# Altium footprint library Gas Monitor Components.PcbLib: 50 footprints (part 3 of 4)
Each footprint in its own frame and in the unit in brackets; x right, y up, seen from the top. Pads: shape width x height; smd on the part's side, far side on the other; paste and mask are expansions set on the pad; w line width, h text height; cw(c..) or ccw(c..) is an arc to the next point about the centre after c.
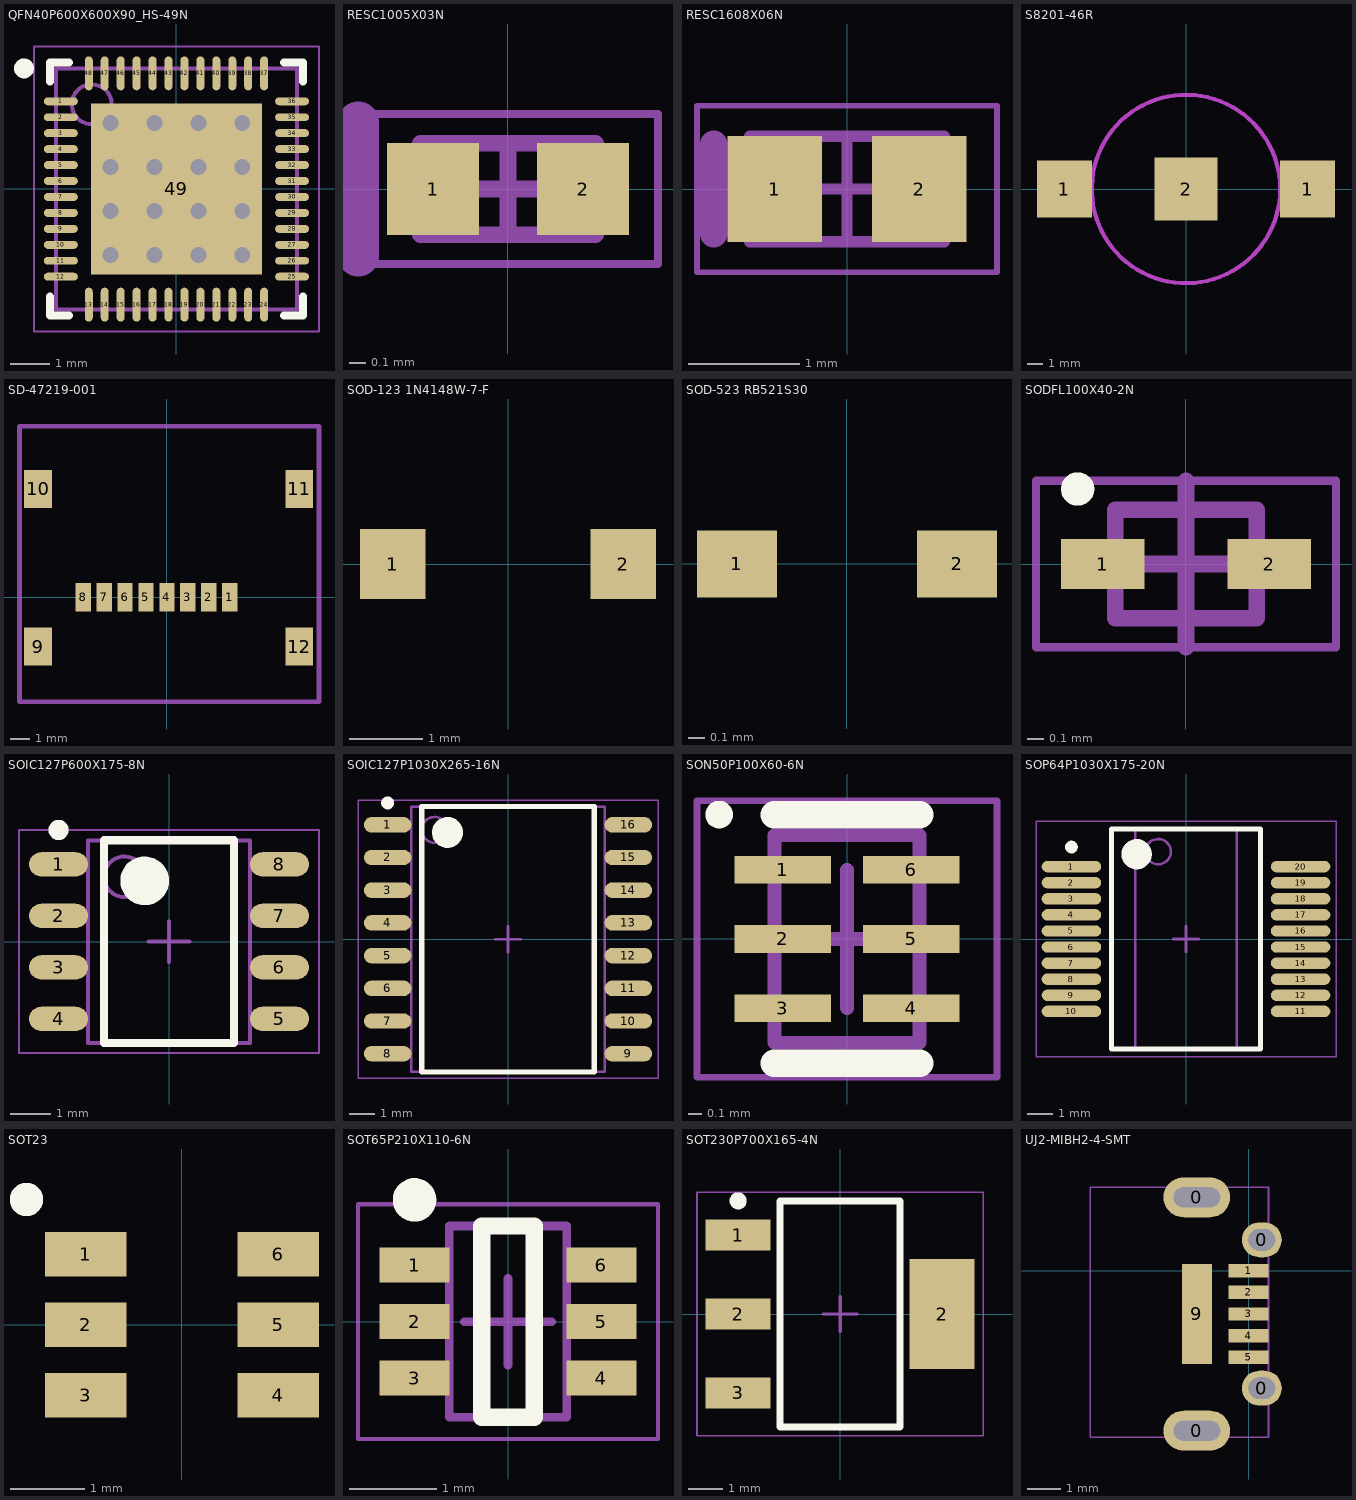
[diagram p2: the footprints below, top view; thin cyan lines are the x and y axes]

## QFN40P600X600X90_HS-49N [mm] "QFN, 48-Leads, Body 6.00x6.00mm, Pitch 0.40mm, Thermal Pad 4.30x4.30mm, IPC Medium Density"
height 0.9
pads (49):
  oval 0.85x0.2 smd: 1(-2.9,2.2) 2(-2.9,1.8) 3(-2.9,1.4) 4(-2.9,1) 5(-2.9,0.6) 6(-2.9,0.2) 7(-2.9,-0.2) 8(-2.9,-0.6) 9(-2.9,-1) 10(-2.9,-1.4) 11(-2.9,-1.8) 12(-2.9,-2.2) 25(2.9,-2.2) 26(2.9,-1.8) 27(2.9,-1.4) 28(2.9,-1) 29(2.9,-0.6) 30(2.9,-0.2) 31(2.9,0.2) 32(2.9,0.6) 33(2.9,1) 34(2.9,1.4) 35(2.9,1.8) 36(2.9,2.2)
  oval 0.2x0.85 smd: 13(-2.2,-2.9) 14(-1.8,-2.9) 15(-1.4,-2.9) 16(-1,-2.9) 17(-0.6,-2.9) 18(-0.2,-2.9) 19(0.2,-2.9) 20(0.6,-2.9) 21(1,-2.9) 22(1.4,-2.9) 23(1.8,-2.9) 24(2.2,-2.9) 37(2.2,2.9) 38(1.8,2.9) 39(1.4,2.9) 40(1,2.9) 41(0.6,2.9) 42(0.2,2.9) 43(-0.2,2.9) 44(-0.6,2.9) 45(-1,2.9) 46(-1.4,2.9) 47(-1.8,2.9) 48(-2.2,2.9)
  rect 4.3x4.3 smd: 49(0,0)
via -1.65,0.55 diameter 0.6 hole 0.4
via -1.65,1.65 diameter 0.6 hole 0.4
via -0.55,1.65 diameter 0.6 hole 0.4
via 0.55,1.65 diameter 0.6 hole 0.4
via 1.65,1.65 diameter 0.6 hole 0.4
via -0.55,0.55 diameter 0.6 hole 0.4
via 0.55,0.55 diameter 0.6 hole 0.4
via 1.65,0.55 diameter 0.6 hole 0.4
via -1.65,-0.55 diameter 0.6 hole 0.4
via -0.55,-0.55 diameter 0.6 hole 0.4
via 0.55,-0.55 diameter 0.6 hole 0.4
via 1.65,-0.55 diameter 0.6 hole 0.4
via -1.65,-1.65 diameter 0.6 hole 0.4
via -0.55,-1.65 diameter 0.6 hole 0.4
via 0.55,-1.65 diameter 0.6 hole 0.4
via 1.65,-1.65 diameter 0.6 hole 0.4
Top Overlay:
  circle w0.25: c-3.825,3.025 r0.125
  lines w0.2: -3.175,-2.7 -3.175,-3.175 -2.7,-3.175 ; -3.175,2.7 -3.175,3.175 -2.7,3.175 ; 2.7,-3.175 3.175,-3.175 3.175,-2.7 ; 2.7,3.175 3.175,3.175 3.175,2.7
Mechanical 13:
  circle w0.1: c-2.125,2.125 r0.5
  lines w0.1: -3.025,-3.025 -3.025,3.025 3.025,3.025 3.025,-3.025 -3.025,-3.025
Mechanical 15:
  lines w0.05: -3.575,-3.575 -3.575,3.575 3.575,3.575 3.575,-3.575 -3.575,-3.575
  lines w0.1: -0.5,0 0.5,0 ; 0,-0.5 0,0.5
3D body "QFN40P600X600X90_HS-49N.step": height 0.9, standoff 0, extent -3.026,-3.026 3.026,3.026

## RESC1005X03N [mm] "Chip Resistor, 2-Leads, Body 1.00x0.50mm, IPC Medium Density"
height 0.35
pads (2):
  rect 0.55x0.55 smd: 1(-0.45,0) 2(0.45,0)
Mechanical 3:
  lines w0.25: -0.9,-0.4 -0.9,0.4
  text "'.Designator'" at -0.7,-0.05 h0.13
Mechanical 13:
  lines w0.1: -0.525,-0.275 -0.525,0.275 0.525,0.275 0.525,-0.275 -0.525,-0.275
Mechanical 15:
  lines w0.05: -0.9,-0.45 -0.9,0.45 0.9,0.45 0.9,-0.45 -0.9,-0.45
  lines w0.1: -0.275,0 0.275,0 ; 0,-0.275 0,0.275
3D body "RESC1005X03N.step": height 0.35, standoff 0, extent -0.525,-0.275 0.525,0.275

## RESC1608X06N [mm] "Chip Resistor, 2-Leads, Body 1.60x0.85mm, IPC Medium Density"
height 0.55
pads (2):
  rect 0.85x0.95 smd: 1(-0.65,0) 2(0.65,0)
Mechanical 3:
  lines w0.25: -1.2,-0.4 -1.2,0.4
  text "'.Designator'" at -0.7,-0.05 h0.13
Mechanical 13:
  lines w0.1: -0.875,-0.475 -0.875,0.475 0.875,0.475 0.875,-0.475 -0.875,-0.475
Mechanical 15:
  lines w0.05: -1.35,-0.75 -1.35,0.75 1.35,0.75 1.35,-0.75 -1.35,-0.75
  lines w0.1: -0.475,0 0.475,0 ; 0,-0.475 0,0.475
3D body "RESC1608X06N.step": height 0.55, standoff 0, extent -0.875,-0.475 0.875,0.475

## S8201-46R [mm] "12.5mm Coin Cell Holder"
height 3.5
pads (3):
  rect 3.5x3.6 smd: 1(-7.75,0) 1(7.75,0)
  rect 4x4 smd: 2(0,0)
Mechanical 15 keep-out:
  circle w0.254: c0,0 r6

## SD-47219-001 [mm] "Molex microSD Card Holder"
height 1.9
pads (12):
  rect 0.8x1.5 smd: 1(3.3,0) 2(2.2,0) 3(1.1,0) 4(0,0) 5(-1.1,0) 6(-2.2,0) 7(-3.3,0) 8(-4.4,0)
  rect 1.45x2 smd: 9(-6.78,-2.6) 10(-6.78,5.7) 11(6.97,5.7) 12(6.97,-2.6)
Mechanical 15:
  lines w0.254: -7.75,-5.5 -7.75,9 8,9 8,-5.5 -7.75,-5.5
3D body "472192001.stp": height 1.06, standoff -0.83, extent -7.05,-5.6 7.55,8.9

## SOD-123 1N4148W-7-F [mm] "2-leads, Standard Diode"
height 1.35
pads (2):
  rect 0.9x0.95 smd: 1(-1.575,0) 2(1.575,0)

## SOD-523 RB521S30 [mm] "2-leads"
height 0.7
pads (2):
  rect 0.48x0.4 smd: 1(-0.66,0) 2(0.66,0)

## SODFL100X40-2N [mm] "SODFL, 2-Leads, Body 0.60x1.00mm, IPC Medium Density"
height 0.4
pads (2):
  rect 0.5x0.3 smd: 1(-0.5,0) 2(0.5,0)
Top Overlay:
  circle w0.1: c-0.65,0.45 r0.05
Mechanical 13:
  lines w0.1: -0.425,-0.325 0.425,-0.325 0.425,0.325 -0.425,0.325 -0.425,-0.325
Mechanical 15:
  lines w0.05: -0.9,-0.5 0.9,-0.5 0.9,0.5 -0.9,0.5 -0.9,-0.5
  lines w0.1: -0.5,0 0.5,0 ; 0,-0.5 0,0.5
3D body: height 0.4, standoff 0, extent -0.425,-0.325 0.425,0.325

## SOIC127P600X175-8N [mm] "SOIC, 8-Leads, Body 4.90x3.90mm, Pitch 1.27mm, IPC Medium Density"
height 1.75
pads (8):
  oval 1.45x0.6 smd: 1(-2.725,1.905) 2(-2.725,0.635) 3(-2.725,-0.635) 4(-2.725,-1.905) 5(2.725,-1.905) 6(2.725,-0.635) 7(2.725,0.635) 8(2.725,1.905)
Top Overlay:
  circle w0.6: c-0.6,1.5 r0.3
  circle w0.25: c-2.725,2.755 r0.125
  lines w0.2: -1.6,-2.5 1.6,-2.5 1.6,2.5 -1.6,2.5 -1.6,-2.5
Mechanical 13:
  circle w0.1: c-1.1,1.6 r0.5
  lines w0.1: -2,-2.5 2,-2.5 2,2.5 -2,2.5 -2,-2.5
Mechanical 15:
  lines w0.05: -3.7,-2.75 3.7,-2.75 3.7,2.75 -3.7,2.75 -3.7,-2.75
  lines w0.1: -0.5,0 0.5,0 ; 0,-0.5 0,0.5
3D body "SOIC127P600X175-8N.step": height 1.75, standoff 0, extent -3,-2.5 3,2.5

## SOIC127P1030X265-16N [mm] "SOIC, 16-Leads, Body 10.30x7.50mm, Pitch 1.27mm, IPC Medium Density"
height 2.65
pads (16):
  oval 1.85x0.6 smd: 1(-4.675,4.445) 2(-4.675,3.175) 3(-4.675,1.905) 4(-4.675,0.635) 5(-4.675,-0.635) 6(-4.675,-1.905) 7(-4.675,-3.175) 8(-4.675,-4.445) 9(4.675,-4.445) 10(4.675,-3.175) 11(4.675,-1.905) 12(4.675,-0.635) 13(4.675,0.635) 14(4.675,1.905) 15(4.675,3.175) 16(4.675,4.445)
Top Overlay:
  circle w0.6: c-2.35,4.15 r0.3
  circle w0.25: c-4.675,5.295 r0.125
  lines w0.2: -3.35,-5.15 3.35,-5.15 3.35,5.15 -3.35,5.15 -3.35,-5.15
Mechanical 13:
  circle w0.1: c-2.85,4.25 r0.5
  lines w0.1: -3.75,-5.15 3.75,-5.15 3.75,5.15 -3.75,5.15 -3.75,-5.15
Mechanical 15:
  lines w0.05: -5.825,-5.4 5.825,-5.4 5.825,5.4 -5.825,5.4 -5.825,-5.4
  lines w0.1: -0.5,0 0.5,0 ; 0,-0.5 0,0.5
3D body "SOIC127P1030X265-16N.step": height 2.65, standoff 0, extent -5.15,-5.15 5.15,5.15

## SON50P100X60-6N [mm] "SON, 6-Leads, Body 1.45x1.00mm, Pitch 0.50mm, IPC Medium Density"
height 0.6
pads (6):
  rect 0.7x0.2 smd: 1(-0.465,0.5) 2(-0.465,0) 3(-0.465,-0.5) 4(0.465,-0.5) 5(0.465,0) 6(0.465,0.5)
Top Overlay:
  circle w0.1: c-0.925,0.9 r0.05
  lines w0.2: -0.525,-0.9 0.525,-0.9 ; -0.525,0.9 0.525,0.9
Mechanical 13:
  lines w0.1: -0.525,-0.75 0.525,-0.75 0.525,0.75 -0.525,0.75 -0.525,-0.75
Mechanical 15:
  lines w0.05: -1.085,-1 1.085,-1 1.085,1 -1.085,1 -1.085,-1
  lines w0.1: -0.5,0 0.5,0 ; 0,-0.5 0,0.5
3D body "SON50P100X60-6N.step": height 0.6, standoff 0, extent -0.575,-0.75 0.575,0.75

## SOP64P1030X175-20N [mm] "SOP, 20-Leads, Body 8.65x3.90mm, Pitch 0.64mm, IPC Medium Density"
height 1.76
pads (20):
  oval 2.35x0.45 smd: 1(-4.525,2.857) 2(-4.525,2.222) 3(-4.525,1.587) 4(-4.525,0.953) 5(-4.525,0.318) 6(-4.525,-0.318) 7(-4.525,-0.953) 8(-4.525,-1.587) 9(-4.525,-2.222) 10(-4.525,-2.857) 11(4.525,-2.857) 12(4.525,-2.222) 13(4.525,-1.587) 14(4.525,-0.953) 15(4.525,-0.318) 16(4.525,0.318) 17(4.525,0.953) 18(4.525,1.587) 19(4.525,2.222) 20(4.525,2.857)
Top Overlay:
  circle w0.6: c-1.95,3.35 r0.3
  circle w0.25: c-4.525,3.632 r0.125
  lines w0.2: -2.95,-4.35 2.95,-4.35 2.95,4.35 -2.95,4.35 -2.95,-4.35
Mechanical 13:
  circle w0.1: c-1.1,3.45 r0.5
  lines w0.1: -2,-4.35 2,-4.35 2,4.35 -2,4.35 -2,-4.35
Mechanical 15:
  lines w0.05: -5.925,-4.65 5.925,-4.65 5.925,4.65 -5.925,4.65 -5.925,-4.65
  lines w0.1: -0.5,0 0.5,0 ; 0,-0.5 0,0.5
3D body "SOP64P1030X175-20N.step": height 1.75, standoff 0, extent -5.15,-4.35 5.15,4.35

## SOT23 [mm]
pads (6):
  rect 1.1x0.6 smd: 1(-1.3,0.95) 2(-1.3,0) 3(-1.3,-0.95) 4(1.3,-0.95) 5(1.3,0) 6(1.3,0.95)
Top Overlay:
  lines w0.25: -2.2,1.7 ccw(c-2.1,1.692) -2.2,1.702
3D body: height 1.45, standoff 0, extent -0.9,-1.5 0.9,1.5

## SOT65P210X110-6N [mm] "SOT23, 6-Leads, Body 2.00x2.10mm, Pitch 0.65mm, IPC Medium Density"
height 1.1
pads (6):
  rect 0.8x0.4 smd: 1(-1.075,0.65) 2(-1.075,0) 3(-1.075,-0.65) 4(1.075,-0.65) 5(1.075,0) 6(1.075,0.65)
Top Overlay:
  circle w0.25: c-1.075,1.4 r0.125
  lines w0.2: -0.3,-1.1 0.3,-1.1 0.3,1.1 -0.3,1.1 -0.3,-1.1
Mechanical 13:
  lines w0.1: -0.675,-1.1 -0.675,1.1 0.675,1.1 0.675,-1.1 -0.675,-1.1
Mechanical 15:
  lines w0.05: -1.725,-1.35 -1.725,1.35 1.725,1.35 1.725,-1.35 -1.725,-1.35
  lines w0.1: -0.5,0 0.5,0 ; 0,-0.5 0,0.5
3D body "SOT65P210X110-6N.step": height 1.1, standoff 0, extent -1.1,-1.1 1.1,1.1

## SOT230P700X165-4N [mm] "SOT223, 4-Leads, Body 6.50x7.00mm (avg), Pitch 2.30mm, IPC Medium Density"
height 1.65
pads (4):
  rect 1.9x0.9 smd: 1(-2.975,2.3) 2(-2.975,0) 3(-2.975,-2.3)
  rect 1.9x3.2 smd: 2(2.975,0)
Top Overlay:
  circle w0.25: c-2.975,3.3 r0.125
  lines w0.2: -1.75,-3.3 1.75,-3.3 1.75,3.3 -1.75,3.3 -1.75,-3.3
Mechanical 13:
  lines w0.1: -1.775,-3.275 1.775,-3.275 1.775,3.275 -1.775,3.275 -1.775,-3.275
Mechanical 15:
  lines w0.05: -4.175,-3.55 4.175,-3.55 4.175,3.55 -4.175,3.55 -4.175,-3.55
  lines w0.1: -0.5,0 0.5,0 ; 0,-0.5 0,0.5
3D body "SOT230P700X165-4N.step": height 1.65, standoff 0, extent -3.5,-3.275 3.5,3.275

## UJ2-MIBH2-4-SMT [mm] "USB MICRO-B Jack"
pads (10):
  oval 2x1.2 hole 0.6 slot 1.4 at 0 deg: 0(-1.55,-4.8) 0(-1.55,2.2)
  oval 1.2x1.05 hole 0.65 slot 0.8 at 0 deg: 0(0.4,-3.525) 0(0.4,0.925)
  rect 1.2x0.4 smd: 1(0,0) 2(0,-0.65) 3(0,-1.3) 4(0,-1.95) 5(0,-2.6)
  rect 0.9x3 smd: 9(-1.55,-1.3)
Mechanical 15:
  lines w0.05: -4.6,-5 0.6,-5 0.6,2.5 -4.75,2.5 -4.75,-5 -0.5,-5
3D body "CUI_UJ2-MIBH2-4-SMT.step": height 0.81, standoff -2.6, extent -4.75,-5 0.545,2.5